# EAGLE library part FE08-1 (library ATMEL)
FEMALE HEADER
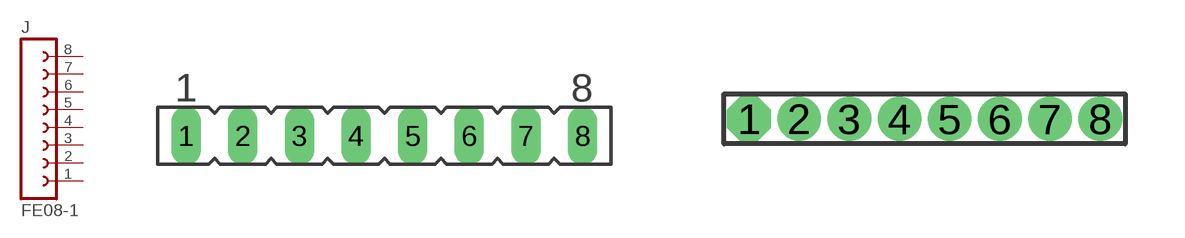
[diagram p4: symbol with the pads of FE08; footprints FE08, HEADER_8_50]

Designator prefix J

## FE08-1100_MIL_PITCH  [FE08]
1  1  pas
2  2  pas
3  3  pas
4  4  pas
5  5  pas
6  6  pas
7  7  pas
8  8  pas

## FE08-150_MIL_PITCH  [HEADER_8_50]
Pads as for FE08

## Footprint FE08 (pad centres in mm)
FEMALE HEADER
drill 0.813 long: 1 -8.89,0; 2 -6.35,0; 3 -3.81,0; 4 -1.27,0; 5 1.27,0; 6 3.81,0; 7 6.35,0; 8 8.89,0

## Footprint HEADER_8_50 (pad centres in mm)
drill 0.6 pad 1.016 octagon: 1 0,0
drill 0.6 pad 1.016 round: 2 1.27,0; 3 2.54,0; 4 3.81,0; 5 5.08,0; 6 6.35,0; 7 7.62,0; 8 8.89,0